# EAGLE library part STM32F042K6 (library CASE-MCU)
STM32F042K6, LQFP-32 Description: STM32F042K6 from STMicroelectronics F0 series (Arm Cortex M0), LQFP-32 package Links: Datasheet <https://www.st.com/resource/en/datasheet/stm32f042k6.pdf> Website <https://www.st.com/en/microcontrollers/stm32f042k6.html> NUCLEO-F042K6 <https://www.st.com/en/evaluation-tools/nucleo-f042k6.html>
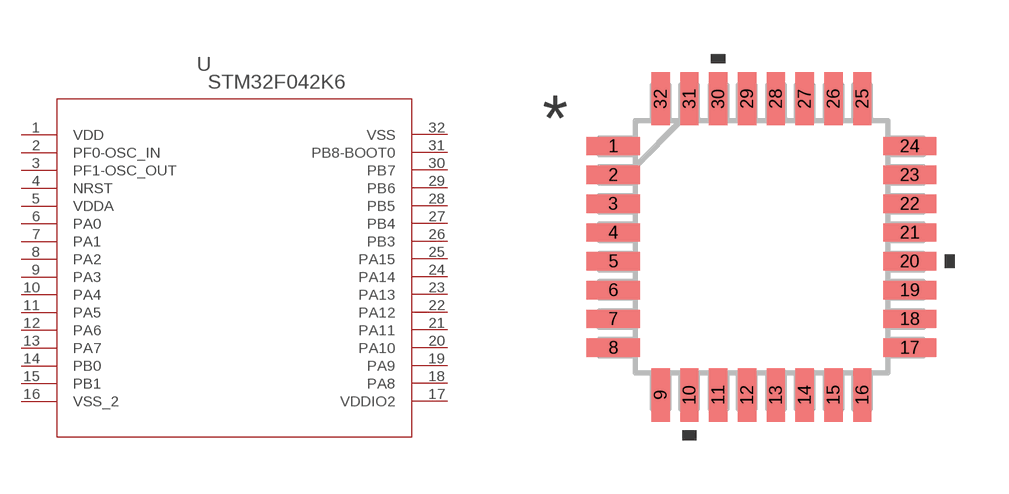
[diagram p3: symbol with the pads of LQFP-32; footprint LQFP-32]

Designator prefix U

## STM32F042K6 (MANUFACTURER_PART_NUMBER: stm32f042k6t; VENDOR: STMicroelectronics)  [LQFP-32]
1  VDD  pwr
2  PF0-OSC_IN
3  PF1-OSC_OUT
4  NRST
5  VDDA  pwr
6  PA0
7  PA1
8  PA2
9  PA3
10  PA4
11  PA5
12  PA6
13  PA7
14  PB0
15  PB1
16  VSS_2  pwr
17  VDDIO2  pwr
18  PA8
19  PA9
20  PA10
21  PA11
22  PA12
23  PA13
24  PA14
25  PA15
26  PB3
27  PB4
28  PB5
29  PB6
30  PB7
31  PB8-BOOT0
32  VSS  pwr

## Footprint LQFP-32 (pad centres in mm)
smd 1.473 x 0.508: 1 -4.115,2.8; 2 -4.115,2; 3 -4.115,1.2; 4 -4.115,0.4; 5 -4.115,-0.4; 6 -4.115,-1.2; 7 -4.115,-2; 8 -4.115,-2.8; 17 4.115,-2.8; 18 4.115,-2; 19 4.115,-1.2; 20 4.115,-0.4; 21 4.115,0.4; 22 4.115,1.2; 23 4.115,2; 24 4.115,2.8
smd 0.508 x 1.473: 9 -2.8,-4.115; 10 -2,-4.115; 11 -1.2,-4.115; 12 -0.4,-4.115; 13 0.4,-4.115; 14 1.2,-4.115; 15 2,-4.115; 16 2.8,-4.115; 25 2.8,4.115; 26 2,4.115; 27 1.2,4.115; 28 0.4,4.115; 29 -0.4,4.115; 30 -1.2,4.115; 31 -2,4.115; 32 -2.8,4.115